# EAGLE library part CONN_BLOCK_8 (library nest_interface)
8x 0.100 in screw terminal block
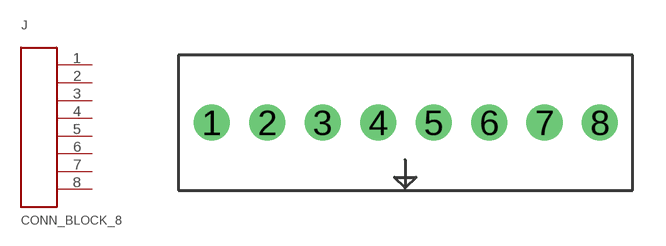
[diagram p6: symbol with the pads of CONN_BLOCK_8; footprint CONN_BLOCK_8]

Designator prefix J

## CONN_BLOCK_8 (DIGIKEY: 277-1279-ND)  [CONN_BLOCK_8]
1  1
2  2
3  3
4  4
5  5
6  6
7  7
8  8

## Footprint CONN_BLOCK_8 (pad centres in mm)
drill 1.1: 1 -8.89,0; 2 -6.35,0; 3 -3.81,0; 4 -1.27,0; 5 1.27,0; 6 3.81,0; 7 6.35,0; 8 8.89,0